# EAGLE library part ZX62D-B-5PA8 (library 25cmsquare)
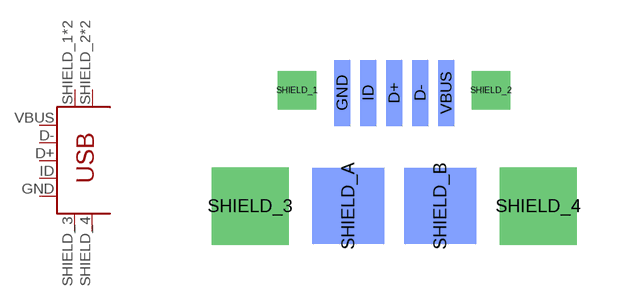
[diagram p2: symbol with the pads of ZX62D-B-5PA8; footprint ZX62D-B-5PA8]

Designator prefix -

## ZX62D-B-5PA8  [ZX62D-B-5PA8]
D+  D+
D-  D-
GND  GND
ID  ID
SHIELD_1  MTN1
SHIELD_2  MTN2
SHIELD_3  MTN3
SHIELD_4  MTN4
SHIELD_A  MTN1
SHIELD_B  MTN2
VBUS  VBUS

## Footprint ZX62D-B-5PA8 (pad centres in mm)
smd 0.4 x 1.65 bottom: D+ 0,4.285; D- 0.65,4.285; GND -1.3,4.285; ID -0.65,4.285; VBUS 1.3,4.285
drill 0.45 pad 0.813 square: SHIELD_1 -2.425,4.35; SHIELD_2 2.425,4.35
drill 1 pad 1.93 square: SHIELD_3 -3.6,1.45; SHIELD_4 3.6,1.45
smd 1.8 x 1.9 bottom: SHIELD_A -1.15,1.45; SHIELD_B 1.15,1.45